# EAGLE library part TOP242-250 (library TOP-Switcher)
Extendet Power, Design Flexible. EcoSmart, Off-line Switcher ( 0...20W)
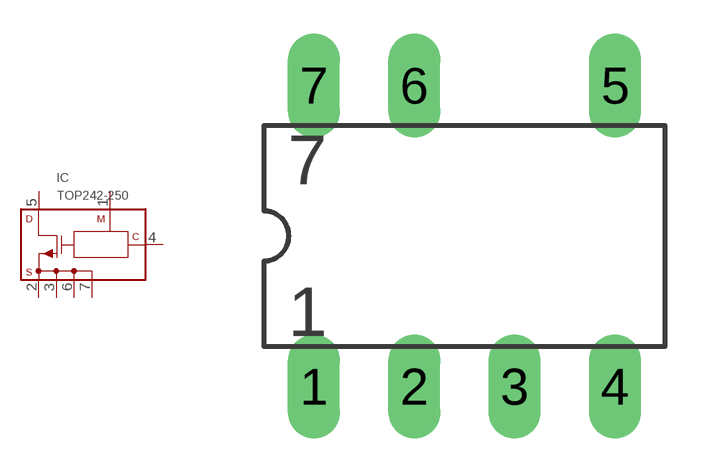
[diagram p5: symbol with the pads of DIP-8B; footprint DIP-8B]

Designator prefix IC

## TOP242-250DIP  [DIP-8B]
1  M
2  S2
3  S3
4  C
5  D
6  S7
7  S8

## Footprint DIP-8B (pad centres in mm)
drill 0.813 long: 1 -3.81,-3.81; 2 -1.27,-3.81; 3 1.27,-3.81; 4 3.81,-3.81; 5 3.81,3.81; 6 -1.27,3.81; 7 -3.81,3.81